# Altium footprint library OBDH_Ed02.PcbLib: 26 footprints (part 1 of 2)
Each footprint in its own frame and in the unit in brackets; x right, y up, seen from the top. Pads: shape width x height; smd on the part's side, far side on the other; paste and mask are expansions set on the pad; w line width, h text height; cw(c..) or ccw(c..) is an arc to the next point about the centre after c.
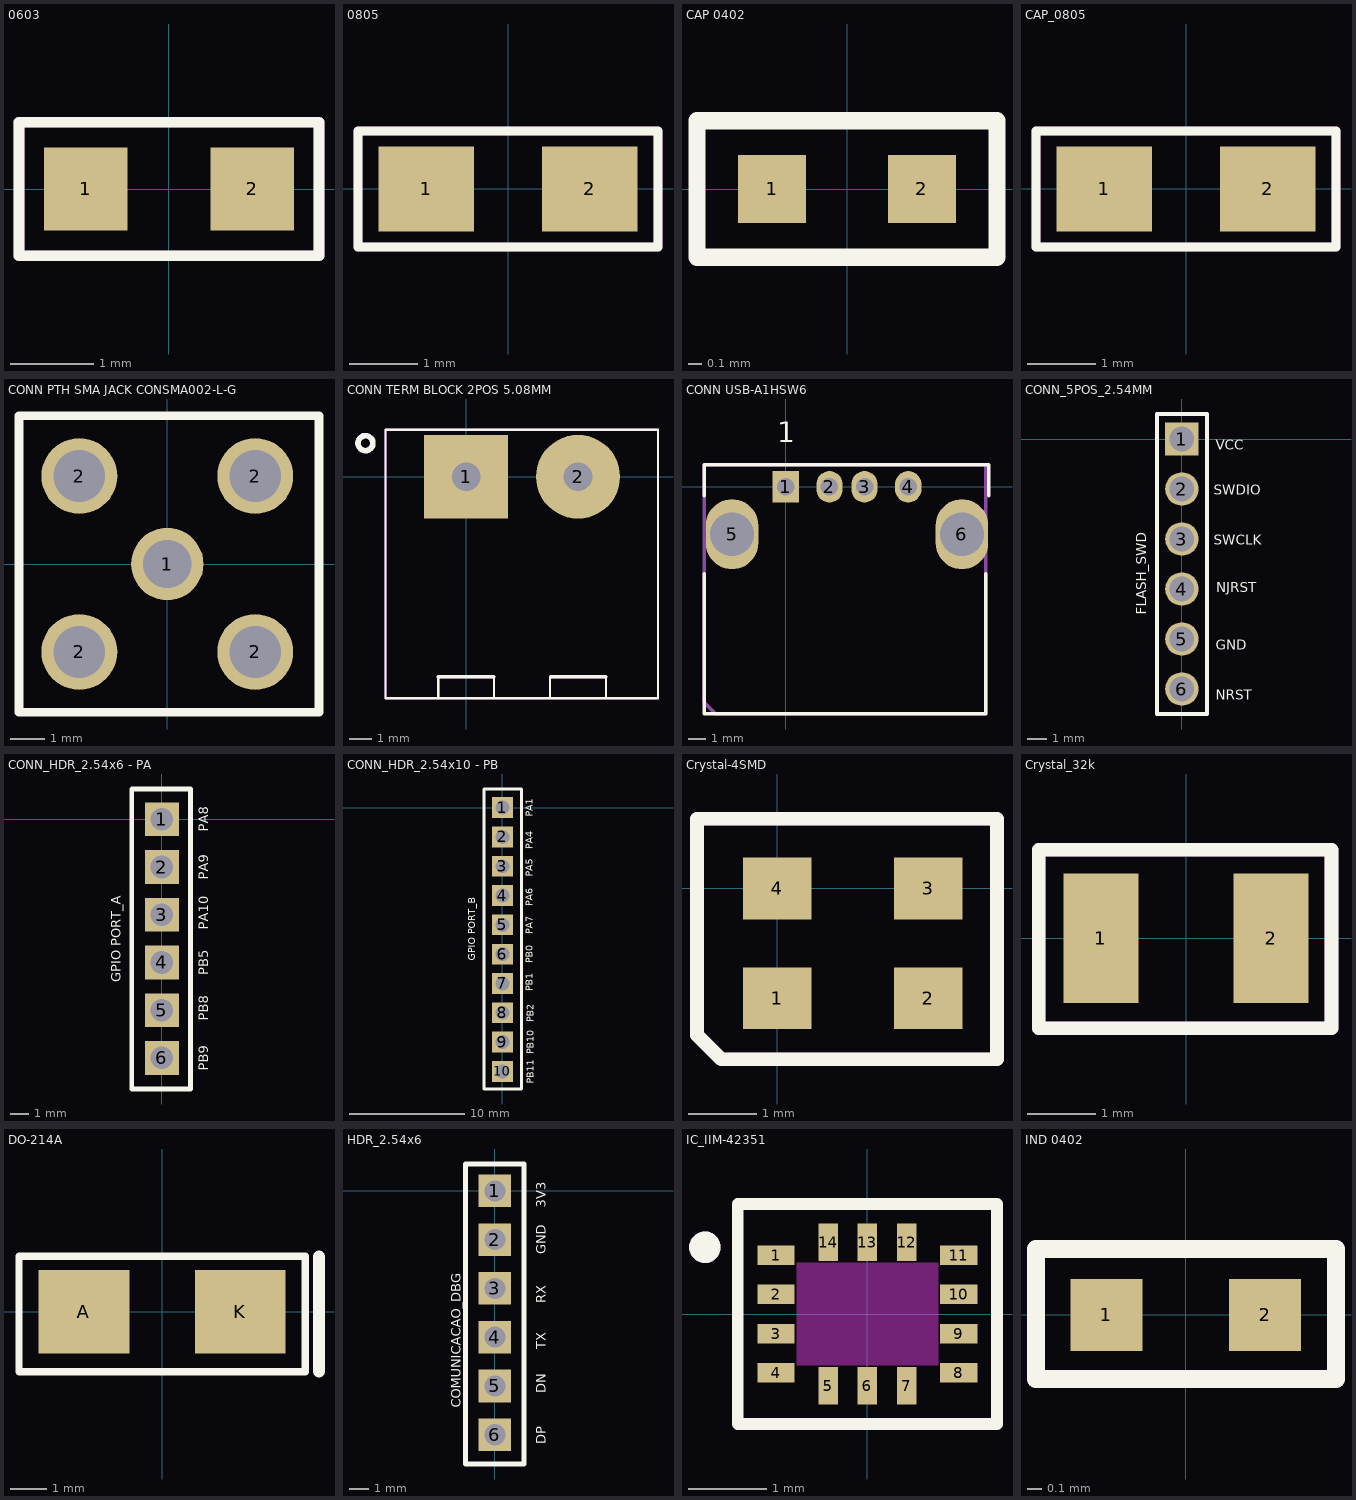
[diagram p0: the footprints below, top view; thin cyan lines are the x and y axes]

## 0603 [mm] "GT1021_ED02r2"
height 0.9
pads (2):
  rect 1x1 smd paste-0.08 mask+0.05: 1(-1,0) 2(1,0)
Top Overlay:
  lines w0.127: -1.8,-0.8 -1.8,0.8 1.8,0.8 1.8,-0.8 -1.8,-0.8
Mechanical 13:
  lines w0.127: -1.8,-0.8 -1.8,0.8 1.8,0.8 1.8,-0.8 -1.8,-0.8
3D body "Indutor_0603.stp": height 0.46, standoff 0.01, extent -0.8,-0.394 0.8,0.406

## 0805 [mm] "INDUTOR 0805"
height 1
pads (2):
  rect 1.4x1.25 smd mask+0.1: 1(-1.2,0) 2(1.2,0)
Top Overlay:
  lines w0.127: -2.2,-0.85 2.2,-0.85 2.2,0.85 -2.2,0.85 -2.2,-0.85
Mechanical 13:
  lines w0.127: -2.2,-0.85 2.2,-0.85 2.2,0.85 -2.2,0.85 -2.2,-0.85
3D body "Indutor_0805.stp": height 0.51, standoff 0.01, extent -1,-0.625 1,0.625

## CAP 0402 [mm] "GT1021_ED02r2"
height 0.55
pads (2):
  rect 0.5x0.5 smd paste-0.04 mask+0.1: 1(-0.55,0) 2(0.55,0)
Top Overlay:
  lines w0.127: -1.1,-0.5 1.1,-0.5 1.1,0.5 -1.1,0.5 -1.1,-0.5
3D body "Capacitor_0402.stp": height 0.56, standoff 0.01, extent -0.525,-0.271 0.525,0.279

## CAP_0805 [mm] "INDUTOR 0805"
height 1
pads (2):
  rect 1.4x1.25 smd mask+0.1: 1(-1.2,0) 2(1.2,0)
Top Overlay:
  lines w0.127: -2.2,-0.85 -2.2,0.85 2.2,0.85 2.2,-0.85 -2.2,-0.85
Mechanical 13:
  lines w0.127: -2.2,-0.85 -2.2,0.85 2.2,0.85 2.2,-0.85 -2.2,-0.85
3D body "cap_0805.step": height 1.35, standoff 0, extent -1,-0.625 1,0.625

## CONN PTH SMA JACK CONSMA002-L-G [mm] "MTER Ed02r1"
height 10
pads (5):
  round 2.1 hole 1.4: 1(0,0)
  round 2.2 hole 1.5: 2(-2.55,-2.55) 2(-2.55,2.55) 2(2.55,-2.55) 2(2.55,2.55)
Top Overlay:
  lines w0.25: -4.3,-4.3 4.4,-4.3 4.4,4.3 -4.3,4.3 -4.3,-4.3
Top Paste:
  lines w0.1: -2.55,1.85 -2.55,2.55 2.55,2.55
3D body "CONSMA002-L-G--3DModel-STEP-56544.STEP": height 11.7, standoff -3.9, extent -5.097,-16 5.097,3.5

## CONN TERM BLOCK 2POS 5.08MM [mm] "NG3_ED03r1"
height 7.9
pads (2):
  rect 3.81x3.81 hole 1.3 paste+0: 1(0,0)
  round 3.81 hole 1.3 paste+0: 2(5.08,0)
Top Overlay:
  circle w0.254: c-4.572,1.524 r0.339
  lines w0.102: -1.27,-10 -1.27,-9.079 ; 1.27,-10 1.27,-9.079 ; 3.81,-10 3.81,-9.079 ; 6.35,-10 6.35,-9.079 ; -3.658,-10.058 8.712,-10.058 8.712,2.134 -3.658,2.134 -3.658,-10.058
  lines w0.15: -1.27,-9.079 1.252,-9.079 ; 3.828,-9.079 6.35,-9.079
Mechanical 13:
  lines w0.102: -1.27,-10 -1.27,-9.079 ; 1.27,-10 1.27,-9.079 ; 3.81,-10 3.81,-9.079 ; 6.35,-10 6.35,-9.079 ; -3.658,-10.058 8.712,-10.058 8.712,2.134 -3.658,2.134 -3.658,-10.058
  lines w0.15: -1.27,-9.079 1.252,-9.079 ; 3.828,-9.079 6.35,-9.079
3D body "conector_5.08_2v.STEP": height 8.61, standoff -3.49, extent -3.556,-9.964 8.604,2.039

## CONN USB-A1HSW6 [mm] "JONE_ED01r2"
height 7.12
pads (6):
  rect 1.5x1.8 hole 1: 1(0,0)
  oval 1.5x1.8 hole 1: 2(2.5,0) 3(4.5,0) 4(7,0)
  oval 3x4 hole 2.5: 5(-3.07,-2.71) 6(10.07,-2.71)
Top Overlay:
  lines w0.2: -4.663,-4.953 -4.663,-12.954 11.426,-12.954 11.426,-4.953 ; -4.642,-0.508 -4.642,1.27 11.612,1.27 11.612,-0.508
  text "1" at -0.483,2.134 h2
Top Assembly (Mech29):
  lines w0.2: -4.663,-12.321 -4.663,1.27 11.426,1.27 11.426,-12.954 -4.03,-12.954 -4.663,-12.321
  text "'.Designator'" at -1.341,-2.355 h2
  text "1" at -0.483,2.083 h2
3D body "USB-A1HSW6--3DModel-STEP-56544.STEP": height 7.56, standoff -3.24, extent -4.471,-12.954 11.329,1.146

## CONN_5POS_2.54MM [mm]
pads (6):
  rect 1.7x1.7 hole 1.25: 1(0,0)
  round 1.7 hole 1.25: 2(0,-2.54) 3(0,-5.08) 4(0,-7.62) 5(0,-10.16) 6(0,-12.7)
Top Overlay:
  lines w0.2: -1.27,-13.97 -1.27,1.27 1.27,1.27 1.27,-13.97 -1.27,-13.97
  text "NRST" at 1.712,-13.25 h0.5
  text "VCC" at 1.712,-0.55 h0.5
  text "SWDIO" at 1.609,-2.836 h0.5
  text "SWCLK" at 1.609,-5.376 h0.5
  text "NJRST" at 1.736,-7.789 h0.5
  text "GND" at 1.712,-10.71 h0.5
  text "FLASH_SWD" at -1.819,-8.932 h0.5

## CONN_HDR_2.54x6 - PA [mm]
pads (6):
  rect 1.8x1.8 hole 1.2 square: 1(0,0) 2(0,-2.54) 3(0,-5.08) 4(0,-7.62) 5(0,-10.16) 6(0,-12.7)
Top Overlay:
  lines w0.254: -1.6,-14.351 1.524,-14.351 1.524,1.61 -1.6,1.61 -1.6,-14.351
  text "PB9" at 2.455,-13.377 h0.5
  text "PB5" at 2.455,-8.297 h0.5
  text "PB8" at 2.455,-10.71 h0.5
  text "PA9" at 2.455,-3.217 h0.5
  text "PA10" at 2.455,-5.884 h0.5
  text "PA8" at 2.455,-0.677 h0.5
  text "GPIO PORT_A" at -2.2,-8.678 h0.5

## CONN_HDR_2.54x10 - PB [mm]
pads (10):
  rect 1.8x1.8 hole 1.2 square: 1(0,0) 2(0,-2.54) 3(0,-5.08) 4(0,-7.62) 5(0,-10.16) 6(0,-12.7) 7(0,-15.24) 8(0,-17.78) 9(0,-20.32) 10(0,-22.86)
Top Overlay:
  lines w0.254: -1.6,-24.384 1.651,-24.384 1.651,1.61 -1.6,1.61 -1.6,-24.384
  text "PB0" at 2.615,-13.504 h0.6
  text "PA7" at 2.615,-10.964 h0.6
  text "PA6" at 2.615,-8.551 h0.6
  text "PA5" at 2.615,-6.011 h0.6
  text "PA4" at 2.615,-3.598 h0.6
  text "PA1" at 2.615,-0.804 h0.6
  text "GPIO PORT_B" at -2.344,-13.25 h0.6
  text "PB1" at 2.615,-15.917 h0.6
  text "PB2" at 2.709,-18.584 h0.6
  text "PB10" at 2.709,-21.378 h0.6
  text "PB11" at 2.709,-23.918 h0.6

## Crystal-4SMD [mm]
pads (4):
  rect 1x0.9 smd: 1(0,-1.6) 2(2.2,-1.6) 3(2.2,0) 4(0,0)
Top Overlay:
  lines w0.2: -1.168,-2.134 -0.813,-2.489 3.2,-2.489 3.2,1.016 -1.168,1.016 -1.168,-2.134
Bottom Assembly:
  lines w0.2: -1.168,-2.134 -1.168,1.016 3.2,1.016 3.2,-2.489 -0.813,-2.489 -1.168,-2.134
3D body "NX2016SA_NDK.step": height 0.83, standoff 0.01, extent -0.533,-2.108 2.769,0.482

## Crystal_32k [mm]
pads (2):
  rect 1.1x1.9 smd: 1(-1.25,0) 2(1.25,0)
Top Overlay:
  lines w0.2: -2.159,-1.321 2.134,-1.321 2.134,1.295 -2.159,1.295 -2.159,-1.321
Mechanical 13:
  lines w0.2: -2.159,-1.321 2.134,-1.321 2.134,1.295 -2.159,1.295 -2.159,-1.321
3D body "step_temp.STEP": height 0.9, standoff 0.01, extent -1.6,-0.749 1.6,0.749

## DO-214A [mm]
pads (2):
  rect 2.5x2.3 smd: A(-2.15,0) K(2.15,0)
Top Overlay:
  lines w0.2: -3.937,-1.651 3.937,-1.651 3.937,1.524 -3.937,1.524 -3.937,-1.651
  lines w0.33: 4.318,-1.651 4.318,1.524
3D body "SMB_DIO.step": height 2.46, standoff 0.01, extent -2.795,-1.97 2.795,1.97

## HDR_2.54x6 [mm]
pads (6):
  rect 1.7x1.7 hole 1.1 square mask+0.075: 1(0,0) 2(0,-2.54) 3(0,-5.08) 4(0,-7.62) 5(0,-10.16) 6(0,-12.7)
Top Overlay:
  lines w0.254: -1.524,-14.224 1.524,-14.224 ; -1.524,-14.224 -1.524,1.397 ; -1.524,-14.224 1.524,-14.224 ; -1.524,-14.224 -1.524,1.397 ; -1.524,1.397 1.524,1.397 ; -1.524,1.397 1.524,1.397 ; 1.524,-14.224 1.524,1.397 ; 1.524,-14.224 1.524,1.397
  text "COMUNICACAO_DBG" at -1.778,-11.303 h0.5
  text "3V3" at 2.65,-0.889 h0.5
  text "GND" at 2.65,-3.302 h0.5
  text "DN" at 2.65,-10.541 h0.5
  text "DP" at 2.65,-13.208 h0.5
  text "RX" at 2.65,-5.842 h0.5
  text "TX" at 2.65,-8.255 h0.5

## IC_IIM-42351 [mm]
height 0.97
pads (14):
  rect 0.475x0.25 smd mask+0.05: 1(-1.162,0.75) 2(-1.162,0.25) 3(-1.162,-0.25) 4(-1.162,-0.75) 8(1.162,-0.75) 9(1.162,-0.25) 10(1.162,0.25) 11(1.162,0.75)
  rect 0.25x0.475 smd mask+0.05: 5(-0.5,-0.913) 6(0,-0.913) 7(0.5,-0.913) 12(0.5,0.913) 13(0,0.913) 14(-0.5,0.913)
Top Overlay:
  circle w0.2: c-2.069,0.85 r0.1
  lines w0.15: -1.65,-1.4 1.65,-1.4 ; -1.65,-1.4 -1.65,1.4 ; -1.65,-1.4 1.65,-1.4 ; -1.65,-1.4 -1.65,1.4 ; -1.65,-1.4 1.65,-1.4 ; -1.65,-1.4 -1.65,1.4 ; -1.65,-1.4 1.65,-1.4 ; -1.65,-1.4 -1.65,1.4 ; -1.65,-1.4 1.65,-1.4 ; -1.65,-1.4 -1.65,1.4 ; -1.65,-1.4 1.65,-1.4 ; -1.65,-1.4 -1.65,1.4 ; -1.65,-1.4 1.65,-1.4 ; -1.65,-1.4 -1.65,1.4 ; -1.65,-1.4 1.65,-1.4 ; -1.65,-1.4 -1.65,1.4 ; -1.65,-1.4 1.65,-1.4 ; -1.65,-1.4 -1.65,1.4 ; -1.65,-1.4 1.65,-1.4 ; -1.65,-1.4 -1.65,1.4 ; -1.65,-1.4 1.65,-1.4 ; -1.65,-1.4 -1.65,1.4 ; -1.65,-1.4 1.65,-1.4 ; -1.65,-1.4 -1.65,1.4 ; -1.65,-1.4 1.65,-1.4 ; -1.65,-1.4 -1.65,1.4 ; -1.65,-1.4 1.65,-1.4 ; -1.65,-1.4 -1.65,1.4 ; -1.65,-1.4 1.65,-1.4 ; -1.65,-1.4 -1.65,1.4 ; -1.65,-1.4 1.65,-1.4 ; -1.65,-1.4 -1.65,1.4 ; -1.65,-1.4 1.65,-1.4 ; -1.65,-1.4 -1.65,1.4 ; -1.65,-1.4 1.65,-1.4 ; -1.65,-1.4 -1.65,1.4 ; -1.65,-1.4 1.65,-1.4 ; -1.65,-1.4 -1.65,1.4 ; -1.65,-1.4 1.65,-1.4 ; -1.65,-1.4 -1.65,1.4 ; -1.65,-1.4 1.65,-1.4 ; -1.65,-1.4 -1.65,1.4 ; -1.65,-1.4 1.65,-1.4 ; -1.65,-1.4 -1.65,1.4 ; -1.65,-1.4 1.65,-1.4 ; -1.65,-1.4 -1.65,1.4 ; -1.65,-1.4 1.65,-1.4 ; -1.65,-1.4 -1.65,1.4 ; -1.65,-1.4 1.65,-1.4 ; -1.65,-1.4 -1.65,1.4 ; -1.65,-1.4 1.65,-1.4 ; -1.65,-1.4 -1.65,1.4 ; -1.65,-1.4 1.65,-1.4 ; -1.65,-1.4 -1.65,1.4 ; -1.65,-1.4 1.65,-1.4 ; -1.65,-1.4 -1.65,1.4 ; -1.65,-1.4 1.65,-1.4 ; -1.65,-1.4 -1.65,1.4 ; -1.65,-1.4 1.65,-1.4 ; -1.65,-1.4 -1.65,1.4 ; -1.65,-1.4 1.65,-1.4 ; -1.65,-1.4 -1.65,1.4 ; -1.65,-1.4 1.65,-1.4 ; -1.65,-1.4 -1.65,1.4 ; -1.65,1.4 1.65,1.4 ; -1.65,1.4 1.65,1.4 ; -1.65,1.4 1.65,1.4 ; -1.65,1.4 1.65,1.4 ; -1.65,1.4 1.65,1.4 ; -1.65,1.4 1.65,1.4 ; -1.65,1.4 1.65,1.4 ; -1.65,1.4 1.65,1.4 ; -1.65,1.4 1.65,1.4 ; -1.65,1.4 1.65,1.4 ; -1.65,1.4 1.65,1.4 ; -1.65,1.4 1.65,1.4 ; -1.65,1.4 1.65,1.4 ; -1.65,1.4 1.65,1.4 ; -1.65,1.4 1.65,1.4 ; -1.65,1.4 1.65,1.4 ; -1.65,1.4 1.65,1.4 ; -1.65,1.4 1.65,1.4 ; -1.65,1.4 1.65,1.4 ; -1.65,1.4 1.65,1.4 ; -1.65,1.4 1.65,1.4 ; -1.65,1.4 1.65,1.4 ; -1.65,1.4 1.65,1.4 ; -1.65,1.4 1.65,1.4 ; -1.65,1.4 1.65,1.4 ; -1.65,1.4 1.65,1.4 ; -1.65,1.4 1.65,1.4 ; -1.65,1.4 1.65,1.4 ; -1.65,1.4 1.65,1.4 ; -1.65,1.4 1.65,1.4 ; -1.65,1.4 1.65,1.4 ; -1.65,1.4 1.65,1.4 ; 1.65,-1.4 1.65,1.4 ; 1.65,-1.4 1.65,1.4 ; 1.65,-1.4 1.65,1.4 ; 1.65,-1.4 1.65,1.4 ; 1.65,-1.4 1.65,1.4 ; 1.65,-1.4 1.65,1.4 ; 1.65,-1.4 1.65,1.4 ; 1.65,-1.4 1.65,1.4 ; 1.65,-1.4 1.65,1.4 ; 1.65,-1.4 1.65,1.4 ; 1.65,-1.4 1.65,1.4 ; 1.65,-1.4 1.65,1.4 ; 1.65,-1.4 1.65,1.4 ; 1.65,-1.4 1.65,1.4 ; 1.65,-1.4 1.65,1.4 ; 1.65,-1.4 1.65,1.4 ; 1.65,-1.4 1.65,1.4 ; 1.65,-1.4 1.65,1.4 ; 1.65,-1.4 1.65,1.4 ; 1.65,-1.4 1.65,1.4 ; 1.65,-1.4 1.65,1.4 ; 1.65,-1.4 1.65,1.4 ; 1.65,-1.4 1.65,1.4 ; 1.65,-1.4 1.65,1.4 ; 1.65,-1.4 1.65,1.4 ; 1.65,-1.4 1.65,1.4 ; 1.65,-1.4 1.65,1.4 ; 1.65,-1.4 1.65,1.4 ; 1.65,-1.4 1.65,1.4 ; 1.65,-1.4 1.65,1.4 ; 1.65,-1.4 1.65,1.4 ; 1.65,-1.4 1.65,1.4
Keep-Out Layer:
  region: 0.9,-0.65 -0.9,-0.65 -0.9,0.65 0.9,0.65
Mechanical 13:
  circle w0.2: c-2.069,0.85 r0.1

## IND 0402 [mm] "M1 Ed01r2"
pads (2):
  rect 0.5x0.5 smd paste-0.04 mask+0: 1(-0.55,0) 2(0.55,0)
Top Overlay:
  lines w0.127: -1.038,0.456 -1.038,-0.444 1.041,-0.444 1.041,0.457 -1.016,0.457
Mechanical 13:
  lines w0.127: -1.038,0.456 -1.038,-0.444 1.041,-0.444 1.041,0.457 -1.016,0.457
3D body "Coilcraft-0402AF.step": height 0.67, standoff 0.01, extent -0.56,-0.256 0.56,0.256